# Altium schematic symbol library IRsensor_Relay_Controller.SchLib: 8 symbols
Pins are listed as number, name and electrical type; pins without a type are passive.

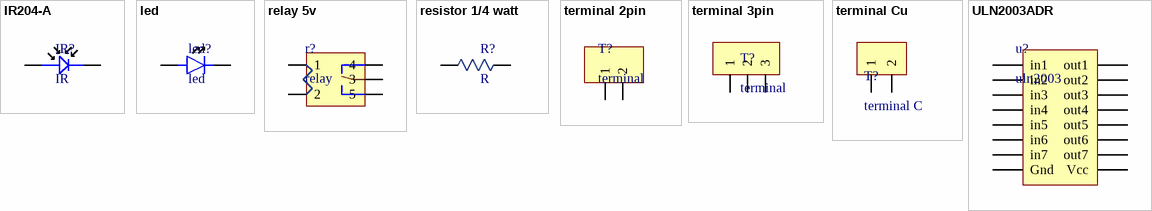
[diagram p0: symbols IR204-A to ULN2003ADR]

## IR204-A
designator IR?, comment IR
EMITTER IR 940NM 100MA RADIAL; Manufacturer: Everlight; Manufacturer Part Number: IR204-A; Forward Voltage: 4V; Viewing Angle: 35°; Power Dissipation: 150mW; Number of Elements: 1; Lens Style: Circular; Reverse Voltage: 5V; Supplier 1: Future Electronics; RoHS: Yes; Category: LEDs; Stock 1: 21000; Pricing 1: 1000=0.07200, 4000=0.04950, 10000=0.04750, 25000=0.04560, 40000=0.04460 (USD); Mount: Through Hole; Case/Package: Radial; Number of Pins: 2; Min Operating Temperature: -40°C; Max Operating Temperature: 85°C; Forward Current: 100mA; Wavelength: 940nm; Package Quantity: 1000; Packaging: Bulk; Test Current: 100mA; Orientation: Top View; Number of LEDs: 1; Series: -; Length: 4mm; Depth: 4mm; Radiation Hardening: No; RoHS Compliant: Yes; Lead Free: Lead Free; ComponentLink1URL: https://datasheet.ciiva.com/4256/743ir204a-4256867.pdf?src-supplier=Arrow+Electronics; ComponentLink1Description: https://datasheet.ciiva.com/4256/743ir204a-4256867.pdf?src-supplier=Arrow+Electronics; ComponentLink2URL: https://datasheet.ciiva.com/26901/getdatasheetpartid-554119-26901401.pdf?src-supplier=Verical; ComponentLink2Description: https://datasheet.ciiva.com/26901/getdatasheetpartid-554119-26901401.pdf?src-supplier=Verical; ComponentLink3URL: https://datasheet.ciiva.com/2107/201407052050005040-2107715.pdf?src-supplier=Digi-Key; ComponentLink3Description: https://datasheet.ciiva.com/2107/201407052050005040-2107715.pdf?src-supplier=Digi-Key; Supplier Part Number 1: 7000312
footprint IR sensor
pins: +, -

## led
designator led?
LED,  5MM,  HIGH EFFICIENCY,  DIFFUSED,  RED; Manufacturer: Dialight; Manufacturer Part Number: 521-9240F; Luminous Intensity: 6.3mcd; Forward Current: 10mA; Lens Style: Diffused,Tinted,Round,Domed,Dome,Colored; Forward Voltage: 2V; Viewing Angle: 50°; Number of Elements: 1; Power Dissipation: 60mW; Current Rating: 25mA; Supplier 1: Digi-Key; RoHS: Yes; Category: LEDs; Stock 1: 2866; Pricing 1: 1=0.77000, 10=0.50600, 100=0.33500, 1000=0.25866, 2000=0.23373, 5000=0.22050 (USD); Mount: Through Hole; Case/Package: Radial; Number of Pins: 2; Color: Red; Lens Color: Red; Min Operating Temperature: -55°C; Max Operating Temperature: 100°C; Packaging: Bulk; Illumination Color: Red; Test Current: 10mA; Lens Transparency: Diffused; Number of LEDs: 1; Series: 521; Height: 8.94mm; Lens Size: 5mm; Radiation Hardening: No; REACH SVHC: No SVHC; RoHS Compliant: Yes; ComponentLink1URL: https://datasheet.ciiva.com/15974/5219240f-15974474.pdf?src-supplier=Onlinecomponents.com; ComponentLink1Description: https://datasheet.ciiva.com/15974/5219240f-15974474.pdf?src-supplier=Onlinecomponents.com; ComponentLink2URL: https://datasheet.ciiva.com/6350/521-9240f-web-6350299.pdf?src-supplier=Digi-Key; ComponentLink2Description: https://datasheet.ciiva.com/6350/521-9240f-web-6350299.pdf?src-supplier=Digi-Key; ComponentLink3URL: https://datasheet.ciiva.com/15209/getdatasheetpartid-245795-15209671.pdf?src-supplier=Verical; ComponentLink3Description: https://datasheet.ciiva.com/15209/getdatasheetpartid-245795-15209671.pdf?src-supplier=Verical; Supplier Part Number 1: 350-2676-ND
footprint led
pins: +, -

## relay 5v
designator r?, comment relay
TE CONNECTIVITY         V23101-D0007-A201             Signal Relay, W11/V23101 Series, SPDT, 24 VDC, 1.25 A, Through Hole, Non Latching; Contact Current Rating: 1.25A; Coil Resistance: 1.28kR; Coil Power: 450mW; Coil Voltage (DC): 24V; Coil Type: Non-Latching; Supplier 1: Newark; Manufacturer: TE Connectivity; Manufacturer Part Number: V23101-D0007-A201; RoHS: No; Category: Relays; Stock 1: 78; Pricing 1: 1=3.98000, 10=3.75000, 25=3.54000, 50=3.33000, 100=3.13000, 500=2.54000 (USD); Contact Material: Silver; Throw Configuration: SPDT; Width: 10.6mm; Height: 15.6mm; REACH SVHC: Unknown; RoHS Compliant: No; ComponentLink1URL: https://datasheet.ciiva.com/6764/13765-6764705.pdf?src-supplier=Newark; ComponentLink1Description: https://datasheet.ciiva.com/6764/13765-6764705.pdf?src-supplier=Newark; ComponentLink2URL: https://datasheet.ciiva.com/1525/1717880-1525156.pdf?src-supplier=Element14; ComponentLink2Description: https://datasheet.ciiva.com/1525/1717880-1525156.pdf?src-supplier=Element14; Supplier Part Number 1: 24M9081
footprint relay 5vdc
pins: 1, 2, 3, 4, 5

## resistor 1/4 watt
designator R?, comment R
RES 330 OHM 1/4W 5% AXIAL; Manufacturer: TE Connectivity; Manufacturer Part Number: CBT25J330R; Resistance: 330R; Power Rating: 250mW; Temperature Coefficient: 400ppm/°C; Insulation Resistance: 1GR; Voltage Rating: 250V; Number of Resistors: 1; Lead Length: 27mm; Lead Diameter: 0.6mm; Supplier 1: Digi-Key; RoHS: Yes; Category: Through-Hole Resistors; Stock 1: 3829; Pricing 1: 1=0.65000, 10=0.46400, 25=0.36200, 50=0.30620, 100=0.24120, 250=0.20408, 500=0.16698, 1000=0.12988 (USD); Mount: Axial; Min Operating Temperature: -55°C; Max Operating Temperature: 125°C; Tolerance: 5%; Packaging: Tape and Reel; Resistor Type: Power resistor; Termination: Axial; Number of Terminations: 2; Series: CBT, Neohm; Max Power Dissipation: 250mW; Resistance Tolerance: 5%; Technology: CARBON COMPOSITION; Diameter: 2.4mm; Length: 6.3mm; ELV: Compliant; RoHS Compliant: Yes; REACH SVHC: Unknown; ComponentLink1URL: https://datasheet.ciiva.com/7657/39351-7657213.pdf?src-supplier=Element14; ComponentLink1Description: https://datasheet.ciiva.com/7657/39351-7657213.pdf?src-supplier=Element14; Supplier Part Number 1: A105936CT-ND
footprint resistor 1/4 watt
pins: 1, 2

## terminal 2pin
designator T?, comment terminal
PCB Terminal Block 3 Poles, 5 mm Pitch, 691101710003, Würth Elektronik; Manufacturer: Wurth Electronics; Color: Blue; Plating: Steel; Number of Contacts: 3; Voltage Rating: 250V; Current Rating: 16A; Number of Levels: 1; Pitch: 0.197inch; Wire Gauge (Max): 26AWG; Wire Gauge (Min): 14AWG; Stripping Length: -7mm; Supplier 1: Digi-Key; Manufacturer Part Number: 691101710003; RoHS: Yes; Category: Terminal Blocks; Stock 1: 1007; Pricing 1: 1=0.96000, 10=0.86200, 50=0.74500, 100=0.69120 (USD); Mount: Through Hole; Contact Plating: Tin; Contact Material: Brass; Housing Material: PA66; Min Operating Temperature: -40°C; Max Operating Temperature: 105°C; Packaging: Bulk; Termination: Screw; Package Quantity: 400; Number of Positions Per Level: 3; Current: 16A; Voltage: 250V; Series: WR-TBL Series 101; Length: 9mm; Width: 16.2mm; Height: 16.4mm; Wire/Cable Gauge: 26AWG; RoHS Compliant: Yes; REACH SVHC: Unknown; ComponentLink1URL: https://datasheet.ciiva.com/824/6911017100xx-824072.pdf?src-supplier=Digi-Key; ComponentLink1Description: https://datasheet.ciiva.com/824/6911017100xx-824072.pdf?src-supplier=Digi-Key; Supplier Part Number 1: 732-2027-ND
footprint terminal 2pin
pins: 1, 2

## terminal 3pin
designator T?, comment terminal
Conn Mini-Power Terminal Strip HDR 12 POS 2.54mm Solder ST SMD 12 Terminal 1 Port; Manufacturer: Samtec; Manufacturer Part Number: IPL1-106-02-L-D-K; Number of Terminals/Pins: 12; Color: Natural; Number of Ports: 1; Gender: Male; Max Current Rating: 7.4A; Max Voltage Rating (AC): 675V; Connector Type: Male Pin; Row Spacing: 0.1inch; Supplier 1: Digi-Key; RoHS: Yes; Category: Headers and Wire Housings; Stock 1: 86; Pricing 1: 1=5.43000, 34=4.67294, 102=4.34696, 442=3.69495, 952=3.15158 (USD); Mount: Surface Mount; Contact Material: Bronze; Contact Plating: Gold; Housing Material: Polymer; Min Operating Temperature: -55°C; Max Operating Temperature: 125°C; Packaging: Rail/Tube; Termination: Solder; Number of Contacts: 12; Orientation: Straight; Package Quantity: 1; Number of Rows: 2; Number of Positions: 12; Series: Mini Mate® IPL1; Fastening Type: Ramp; Contact Type: Male Pin; Length: 16.76mm; Pitch: 2.54mm; Depth: 9.58mm; Contact Mating Length: 0.215inch; Radiation Hardening: No; RoHS Compliant: Yes; ComponentLink1URL: https://datasheet.ciiva.com/9444/ipl1-9444382.pdf?src-supplier=Avnet; ComponentLink1Description: https://datasheet.ciiva.com/9444/ipl1-9444382.pdf?src-supplier=Avnet; ComponentLink2URL: https://datasheet.ciiva.com/16677/ipl1-16677742.pdf?src-supplier=Avnet+Europe; ComponentLink2Description: https://datasheet.ciiva.com/16677/ipl1-16677742.pdf?src-supplier=Avnet+Europe; ComponentLink3URL: https://datasheet.ciiva.com/739/ipl1-1xx-xx-xxx-d-xx-x-mkt-739359.pdf?src-supplier=Digi-Key; ComponentLink3Description: https://datasheet.ciiva.com/739/ipl1-1xx-xx-xxx-d-xx-x-mkt-739359.pdf?src-supplier=Digi-Key; Supplier Part Number 1: SAM10584-ND
footprint terminal 3pin
pins: 1, 2, 3

## terminal Cu
designator T?, comment terminal C
.100 TERMINAL ASSEMBLY; Manufacturer: Samtec; Manufacturer Part Number: IPL1-102-01-S-S-RA-K; Number of Terminals/Pins: 2; Number of Ports: 1; Gender: Male; Max Current Rating: 7.4A; Max Voltage Rating (AC): 675V; Pitch: 2.54mm; Supplier 1: Digi-Key; RoHS: Yes; Category: Headers and Wire Housings; Stock 1: 73; Pricing 1: 1=5.56000, 10=5.05300, 80=4.45200, 440=3.78420, 945=3.22770 (USD); Mount: Through Hole; Contact Material: Bronze; Contact Plating: Gold; Housing Material: Polymer; Min Operating Temperature: -55°C; Max Operating Temperature: 125°C; Packaging: Bulk; Termination: Solder; Number of Contacts: 2; Orientation: Right Angle; Length: 6.6mm; Depth: 9.65mm; Radiation Hardening: No; RoHS Compliant: Yes; ComponentLink1URL: https://datasheet.ciiva.com/9446/ipl1-9446232.pdf?src-supplier=Avnet; ComponentLink1Description: https://datasheet.ciiva.com/9446/ipl1-9446232.pdf?src-supplier=Avnet; ComponentLink2URL: https://datasheet.ciiva.com/16677/ipl1-16677866.pdf?src-supplier=Avnet+Europe; ComponentLink2Description: https://datasheet.ciiva.com/16677/ipl1-16677866.pdf?src-supplier=Avnet+Europe; Supplier Part Number 1: SAM12667-ND
footprint terminal C 2pin
pins: 1, 2

## ULN2003ADR
designator u?, comment uln2003
TEXAS INSTRUMENTS - ULN2003ADR - Bipolar Transistor Array, Darlington, NPN, 50 V, 350 mA, SOIC; Collector Emitter Voltage (VCEO): 50V; Max Collector Current: 500mA; Collector Emitter Saturation Voltage: 1.1V; Number of Elements: 7; Supplier 1: Digi-Key; Manufacturer: Texas Instruments; Manufacturer Part Number: ULN2003ADR; RoHS: Yes; Category: Interface ICs; Pricing 1: 1=0.56000, 10=0.47700, 25=0.44520, 100=0.35620, 500=0.27984, 1000=0.21624 (USD); Mount: Surface Mount; Case/Package: SOIC; Number of Pins: 16; Contact Plating: Gold; Weight: 0.004998oz; Min Operating Temperature: -20°C; Max Operating Temperature: 70°C; Package Quantity: 1; Packaging: Tape and Reel; Polarity: NPN; Number of Drivers: 7; Collector Emitter Breakdown Voltage: 50V; Voltage Rating (DC): 50V; Current Rating: 500mA; Length: 9.9mm; Width: 3.91mm; Height: 1.58mm; Radiation Hardening: No; Lead Free: Lead Free; REACH SVHC: No SVHC; RoHS Compliant: Yes; ComponentLink1URL: https://datasheet.ciiva.com/27049/700605-27049624.pdf?src-supplier=Jameco; ComponentLink1Description: https://datasheet.ciiva.com/27049/700605-27049624.pdf?src-supplier=Jameco; ComponentLink2URL: https://datasheet.ciiva.com/15139/getdatasheetpartid-40508-15139849.pdf?src-supplier=Verical; ComponentLink2Description: https://datasheet.ciiva.com/15139/getdatasheetpartid-40508-15139849.pdf?src-supplier=Verical; ComponentLink3URL: https://datasheet.ciiva.com/1700/uln2003a-1700766.pdf?src-supplier=Digi-Key; ComponentLink3Description: https://datasheet.ciiva.com/1700/uln2003a-1700766.pdf?src-supplier=Digi-Key; ComponentLink4URL: https://datasheet.ciiva.com/1700/uln2003a-1700767.pdf?src-supplier=Digi-Key; ComponentLink4Description: https://datasheet.ciiva.com/1700/uln2003a-1700767.pdf?src-supplier=Digi-Key; ComponentLink5URL: https://datasheet.ciiva.com/1700/uln2003a-1700768.pdf?src-supplier=Digi-Key; ComponentLink5Description: https://datasheet.ciiva.com/1700/uln2003a-1700768.pdf?src-supplier=Digi-Key; ComponentLink6URL: https://datasheet.ciiva.com/14424/ulq2003a-14424060.pdf?src-supplier=Avnet; ComponentLink6Description: https://datasheet.ciiva.com/14424/ulq2003a-14424060.pdf?src-supplier=Avnet; ComponentLink7URL: https://datasheet.ciiva.com/14424/ulq2003a-14424061.pdf?src-supplier=Avnet; ComponentLink7Description: https://datasheet.ciiva.com/14424/ulq2003a-14424061.pdf?src-supplier=Avnet; ComponentLink8URL: https://datasheet.ciiva.com/46423/1831474-46423371.pdf?src-supplier=Element14; ComponentLink8Description: https://datasheet.ciiva.com/46423/1831474-46423371.pdf?src-supplier=Element14; ComponentLink9URL: https://datasheet.ciiva.com/26229/ulq2003a-26229797.pdf?src-supplier=Avnet+Europe; ComponentLink9Description: https://datasheet.ciiva.com/26229/ulq2003a-26229797.pdf?src-supplier=Avnet+Europe; ComponentLink10URL: https://datasheet.ciiva.com/1193/1851982-1193407.pdf?src-supplier=Element14; ComponentLink10Description: https://datasheet.ciiva.com/1193/1851982-1193407.pdf?src-supplier=Element14; Supplier Part Number 1: 296-1368-1-ND
footprint uln2003
pins: in1, in2, in3, in4, in5, in6, in7, out1, out2, out3, out4, out5, out6, out7, Vcc Gnd, Vcc